# Altium footprint library L-PE-N_Connector_C-14.PcbLib: 1 footprints
Each footprint in its own frame and in the unit in brackets; x right, y up, seen from the top. Pads: shape width x height; smd on the part's side, far side on the other; paste and mask are expansions set on the pad; w line width, h text height; cw(c..) or ccw(c..) is an arc to the next point about the centre after c.
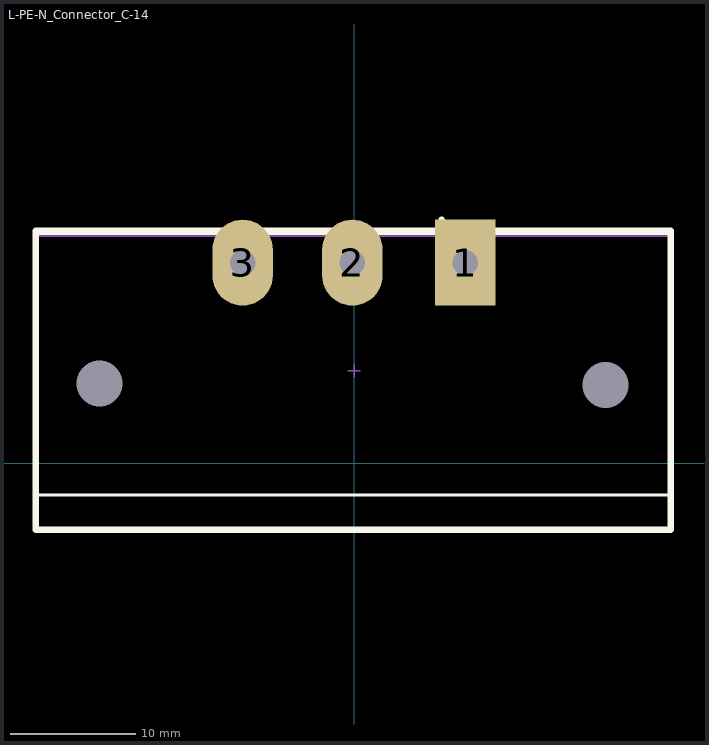
[diagram p0: the footprint, top view; thin cyan lines are the x and y axes]

## L-PE-N_Connector_C-14 [mil]
pads (5):
  rect 190x270 hole 80 paste-39370.1 mask+0: 1(350,630)
  oval 190x270 hole 80 paste-39370.1 mask+0: 2(-5,630) 3(-350,630)
  round 137.8 hole 145 unplated paste-39370.1 mask+0: ""(-800,250) ""(790,245)
Top Overlay:
  circle w9.84: c275.59,765 r4.92
  lines w7.87: -996.06,-210 -996.06,720 996.06,720 996.06,-210 -996.06,-210
  lines w10: -1000,-100 996.06,-100
  lines w20: -1000,-210 996.06,-210 996.06,730 -1000,730 -1000,-210
Bottom Overlay:
  lines w10: -1000,-100 1000,-100
Top Assembly:
  lines w7.87: -1000,-210 1000,-210 1000,715 -1000,715 -1000,-210
  text ".Designator" at 0,297.39 h39.37
Top Component Center:
  lines w3.94: -19.68,290 19.68,290 ; 0,270.31 0,309.69
Top Courtyard:
  lines w7.87: -1000,-210 1000,-210 1000,720 -1000,720 -1000,-210
Top 3D Body:
  lines w7.87: -996.06,-210 996.06,-210 996.06,715 -996.06,715 -996.06,-210
3D body "Трапешка.STEP": height 1093.31, standoff -152.76, extent -976.38,-212.6 976.38,710.24